# EAGLE library part XL-3806RGBC-6L (library HPHP)
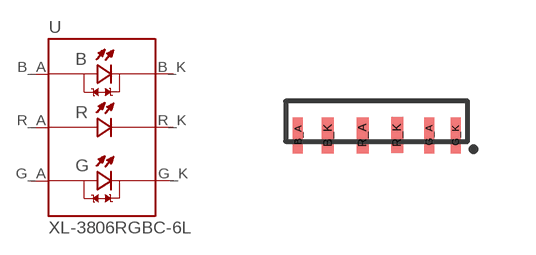
[diagram p0: symbol with the pads of XL-3806RGBC-6L; footprint XL-3806RGBC-6L]

Designator prefix -

## XL-3806RGBC-6L  [XL-3806RGBC-6L]
B_A  BLUE_ANODE  pas
B_K  BLUE_CATHODE  pas
G_A  GREEN_ANODE  pas
G_K  GREEN_CATHODE  pas
R_A  RED_ANODE  pas
R_K  RED_CATHODE  pas

## Footprint XL-3806RGBC-6L (pad centres in mm)
smd 0.25 x 0.9: B_A -2.038,-0.3; G_A 1.238,-0.3; G_K 1.9,-0.3
smd 0.3 x 0.9: B_K -1.288,-0.302; R_A -0.424,-0.3; R_K 0.441,-0.297